# Altium integrated library BB Analog Multiplier Divider.IntLib: 43 symbols
Pins are listed as number, name and electrical type; pins without a type are passive.

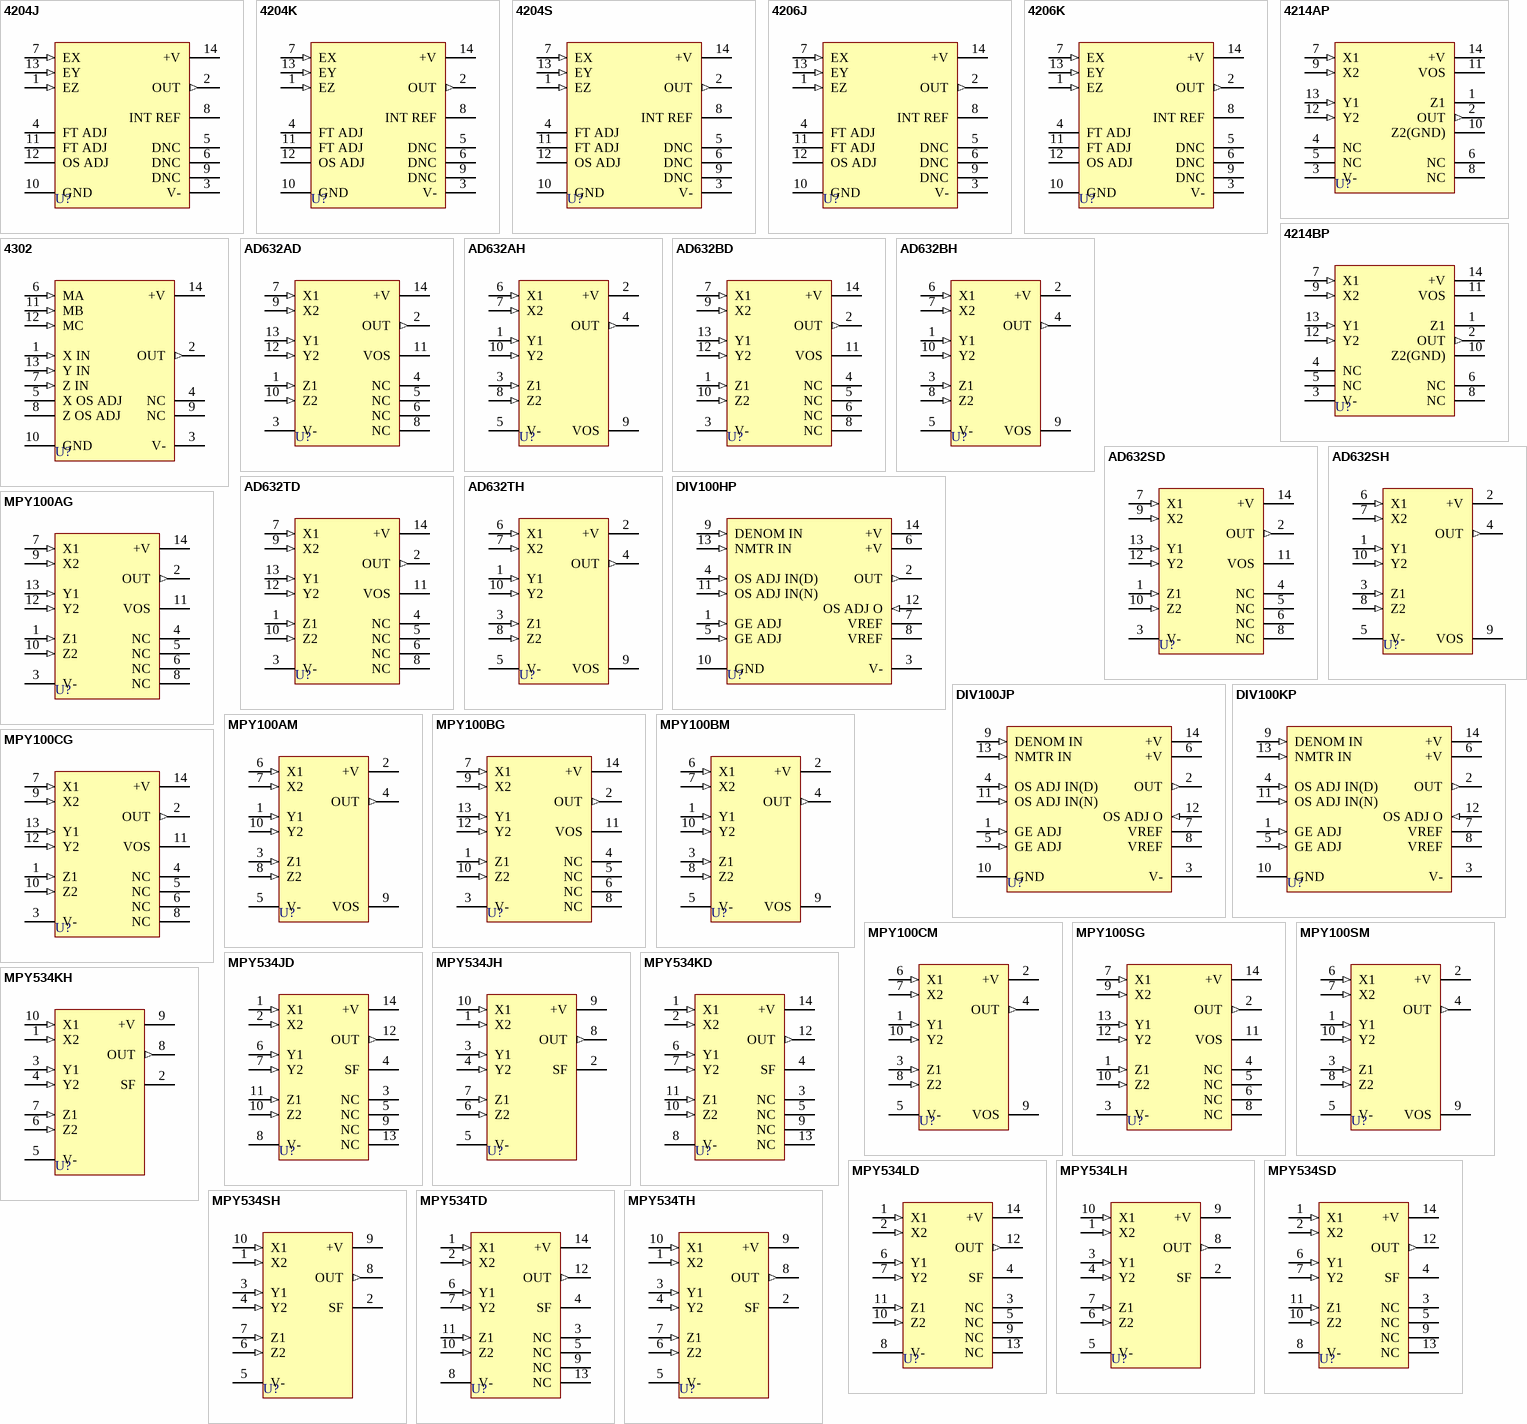
[diagram p0: symbols 4204J to MPY534TH]

## 4204J
designator U?
Analog Multiplier-Divider; Note: Make no connection to pins 5, 6 and 9; Published: 8-Jun-2000; LatestRevisionDate: 17-Jul-2002; LatestRevisionNote: Re-released for DXP Platform.; DatasheetVersion: 1991; PackageVersion: 1994; PackageReference: ZZ107; Publisher: Altium Limited; PackageDescription: DIP; 14 Round Pins; Row Space 7.62 mm; Pitch 2.54 mm; ComponentLink1Description: Manufacturer Link; ComponentLink1URL: http://www.ti.com/
footprint ZZ107 (DIP; 14 Round Pins; Row Space 7.62 mm; Pitch 2.54 mm)
pins: 1 EZ (in), 2 OUT (out), 3 V- (power), 4 FT ADJ, 5 DNC, 6 DNC, 7 EX (in), 8 INT REF, 9 DNC, 10 GND (power), 11 FT ADJ, 12 OS ADJ, 13 EY (in), 14 +V (power)

## 4204K
designator U?
Analog Multiplier-Divider; Note: Make no connection to pins 5, 6 and 9; Published: 8-Jun-2000; LatestRevisionDate: 17-Jul-2002; LatestRevisionNote: Re-released for DXP Platform.; DatasheetVersion: 1991; PackageVersion: 1994; PackageReference: ZZ107; Publisher: Altium Limited; PackageDescription: DIP; 14 Round Pins; Row Space 7.62 mm; Pitch 2.54 mm; ComponentLink1Description: Manufacturer Link; ComponentLink1URL: http://www.ti.com/
footprint ZZ107 (DIP; 14 Round Pins; Row Space 7.62 mm; Pitch 2.54 mm)
pins: 1 EZ (in), 2 OUT (out), 3 V- (power), 4 FT ADJ, 5 DNC, 6 DNC, 7 EX (in), 8 INT REF, 9 DNC, 10 GND (power), 11 FT ADJ, 12 OS ADJ, 13 EY (in), 14 +V (power)

## 4204S
designator U?
Analog Multiplier-Divider; Note: Make no connection to pins 5, 6 and 9; Published: 8-Jun-2000; LatestRevisionDate: 17-Jul-2002; LatestRevisionNote: Re-released for DXP Platform.; DatasheetVersion: 1991; PackageVersion: 1994; PackageReference: ZZ107; Publisher: Altium Limited; PackageDescription: DIP; 14 Round Pins; Row Space 7.62 mm; Pitch 2.54 mm; ComponentLink1Description: Manufacturer Link; ComponentLink1URL: http://www.ti.com/
footprint ZZ107 (DIP; 14 Round Pins; Row Space 7.62 mm; Pitch 2.54 mm)
pins: 1 EZ (in), 2 OUT (out), 3 V- (power), 4 FT ADJ, 5 DNC, 6 DNC, 7 EX (in), 8 INT REF, 9 DNC, 10 GND (power), 11 FT ADJ, 12 OS ADJ, 13 EY (in), 14 +V (power)

## 4206J
designator U?
Analog Multiplier-Divider; Note: Make no connection to pins 5, 6 and 9; Published: 8-Jun-2000; LatestRevisionDate: 17-Jul-2002; LatestRevisionNote: Re-released for DXP Platform.; DatasheetVersion: 1991; PackageVersion: 1995; PackageReference: ZZ003; Publisher: Altium Limited; PackageDescription: DIP; 14 Round Pins; Row Space 7.62 mm; Pitch 2.54 mm; ComponentLink1Description: Manufacturer Link; ComponentLink1URL: http://www.ti.com/
footprint ZZ003 (DIP; 14 Round Pins; Row Space 7.62 mm; Pitch 2.54 mm)
pins: 1 EZ (in), 2 OUT (out), 3 V- (power), 4 FT ADJ, 5 DNC, 6 DNC, 7 EX (in), 8 INT REF, 9 DNC, 10 GND (power), 11 FT ADJ, 12 OS ADJ, 13 EY (in), 14 +V (power)

## 4206K
designator U?
Analog Multiplier-Divider; Note: Make no connection to pins 5, 6 and 9; Published: 8-Jun-2000; LatestRevisionDate: 17-Jul-2002; LatestRevisionNote: Re-released for DXP Platform.; DatasheetVersion: 1991; PackageVersion: 1995; PackageReference: ZZ003; Publisher: Altium Limited; PackageDescription: DIP; 14 Round Pins; Row Space 7.62 mm; Pitch 2.54 mm; ComponentLink1Description: Manufacturer Link; ComponentLink1URL: http://www.ti.com/
footprint ZZ003 (DIP; 14 Round Pins; Row Space 7.62 mm; Pitch 2.54 mm)
pins: 1 EZ (in), 2 OUT (out), 3 V- (power), 4 FT ADJ, 5 DNC, 6 DNC, 7 EX (in), 8 INT REF, 9 DNC, 10 GND (power), 11 FT ADJ, 12 OS ADJ, 13 EY (in), 14 +V (power)

## 4214AP
designator U?
Multiplier-Divider; Note: Pins 4, 5, 6 and 8 are No internal Connection (NC) pins.; Published: 8-Jun-2000; LatestRevisionDate: 17-Jul-2002; LatestRevisionNote: Re-released for DXP Platform.; DatasheetVersion: 1986; PackageVersion: 1995; PackageReference: ZZ003; Publisher: Altium Limited; PackageDescription: DIP; 14 Round Pins; Row Space 7.62 mm; Pitch 2.54 mm; ComponentLink1Description: Manufacturer Link; ComponentLink1URL: http://www.ti.com/
footprint ZZ003 (DIP; 14 Round Pins; Row Space 7.62 mm; Pitch 2.54 mm)
pins: 1 Z1, 2 OUT (out), 3 V- (power), 4 NC, 5 NC, 6 NC, 7 X1 (in), 8 NC, 9 X2 (in), 10 Z2(GND), 11 VOS, 12 Y2 (in), 13 Y1 (in), 14 +V (power)

## 4214BP
designator U?
Multiplier-Divider; Note: Pins 4, 5, 6 and 8 are No internal Connection (NC) pins.; Published: 8-Jun-2000; LatestRevisionDate: 17-Jul-2002; LatestRevisionNote: Re-released for DXP Platform.; DatasheetVersion: 1986; PackageVersion: 1995; PackageReference: ZZ003; Publisher: Altium Limited; PackageDescription: DIP; 14 Round Pins; Row Space 7.62 mm; Pitch 2.54 mm; ComponentLink1Description: Manufacturer Link; ComponentLink1URL: http://www.ti.com/
footprint ZZ003 (DIP; 14 Round Pins; Row Space 7.62 mm; Pitch 2.54 mm)
pins: 1 Z1, 2 OUT (out), 3 V- (power), 4 NC, 5 NC, 6 NC, 7 X1 (in), 8 NC, 9 X2 (in), 10 Z2(GND), 11 VOS, 12 Y2 (in), 13 Y1 (in), 14 +V (power)

## 4302
designator U?
Low-Cost Multifunction Converter; Note: Pins 4 and 9 are No internal Connection (NC) pins.; Published: 8-Jun-2000; LatestRevisionDate: 17-Jul-2002; LatestRevisionNote: Re-released for DXP Platform.; DatasheetVersion: 1995; PackageVersion: 1995; PackageReference: ZZ003; Publisher: Altium Limited; PackageDescription: DIP; 14 Round Pins; Row Space 7.62 mm; Pitch 2.54 mm; ComponentLink1Description: Manufacturer Link; ComponentLink1URL: http://www.ti.com/
footprint ZZ003 (DIP; 14 Round Pins; Row Space 7.62 mm; Pitch 2.54 mm)
pins: 1 X IN (in), 2 OUT (out), 3 V- (power), 4 NC, 5 X OS ADJ, 6 MA (in), 7 Z IN (in), 8 Z OS ADJ, 9 NC, 10 GND (power), 11 MB (in), 12 MC (in), 13 Y IN (in), 14 +V (power)

## AD632AD
designator U?
Precision Analog Multiplier; Note: Pins 4,5,6 and 8 are No internal Connection (NC) pins.; Published: 8-Jun-2000; LatestRevisionDate: 06-Jun-2005; LatestRevisionNote: Stylized 3D Model Added.; DatasheetVersion: 1989; PackageVersion: 1994; PackageReference: 137; Publisher: Altium Limited; PackageDescription: DIP; 14 Leads; Row Spacing 7.62 mm; Pitch 2.54 mm; ComponentLink1Description: Manufacturer Link; ComponentLink1URL: http://www.ti.com/
footprint 137 (DIP; 14 Leads; Row Spacing 7.62 mm; Pitch 2.54 mm)
3D model 137 (DIP; 14 Leads; Row Spacing 7.62 mm; Pitch 2.54 mm)
pins: 1 Z1 (in), 2 OUT (out), 3 V- (power), 4 NC, 5 NC, 6 NC, 7 X1 (in), 8 NC, 9 X2 (in), 10 Z2 (in), 11 VOS, 12 Y2 (in), 13 Y1 (in), 14 +V (power)

## AD632AH
designator U?
Precision Analog Multiplier; Published: 8-Jun-2000; LatestRevisionDate: 17-Jul-2002; LatestRevisionNote: Re-released for DXP Platform.; DatasheetVersion: 1989; PackageVersion: revA; PackageReference: ZZ007; Publisher: Altium Limited; PackageDescription: Can; 10 Leads; Pin Circle Dia. 5.84 mm (TO-100); Lead Dia. 0.53 mm (max); ComponentLink1Description: Manufacturer Link; ComponentLink1URL: http://www.ti.com/
footprint ZZ007 (Can; 10 Leads; Pin Circle Dia. 5.84 mm (TO-100); Lead Dia. 0.53 mm (max))
pins: 1 Y1 (in), 2 +V (power), 3 Z1 (in), 4 OUT (out), 5 V- (power), 6 X1 (in), 7 X2 (in), 8 Z2 (in), 9 VOS, 10 Y2 (in)

## AD632BD
designator U?
Precision Analog Multiplier; Note: Pins 4,5,6 and 8 are No internal Connection (NC) pins.; Published: 8-Jun-2000; LatestRevisionDate: 06-Jun-2005; LatestRevisionNote: Stylized 3D Model Added.; DatasheetVersion: 1989; PackageVersion: 1994; PackageReference: 137; Publisher: Altium Limited; PackageDescription: DIP; 14 Leads; Row Spacing 7.62 mm; Pitch 2.54 mm; ComponentLink1Description: Manufacturer Link; ComponentLink1URL: http://www.ti.com/
footprint 137 (DIP; 14 Leads; Row Spacing 7.62 mm; Pitch 2.54 mm)
3D model 137 (DIP; 14 Leads; Row Spacing 7.62 mm; Pitch 2.54 mm)
pins: 1 Z1 (in), 2 OUT (out), 3 V- (power), 4 NC, 5 NC, 6 NC, 7 X1 (in), 8 NC, 9 X2 (in), 10 Z2 (in), 11 VOS, 12 Y2 (in), 13 Y1 (in), 14 +V (power)

## AD632BH
designator U?
Precision Analog Multiplier; Published: 8-Jun-2000; LatestRevisionDate: 17-Jul-2002; LatestRevisionNote: Re-released for DXP Platform.; DatasheetVersion: 1989; PackageVersion: revA; PackageReference: ZZ007; Publisher: Altium Limited; PackageDescription: Can; 10 Leads; Pin Circle Dia. 5.84 mm (TO-100); Lead Dia. 0.53 mm (max); ComponentLink1Description: Manufacturer Link; ComponentLink1URL: http://www.ti.com/
footprint ZZ007 (Can; 10 Leads; Pin Circle Dia. 5.84 mm (TO-100); Lead Dia. 0.53 mm (max))
pins: 1 Y1 (in), 2 +V (power), 3 Z1 (in), 4 OUT (out), 5 V- (power), 6 X1 (in), 7 X2 (in), 8 Z2 (in), 9 VOS, 10 Y2 (in)

## AD632SD
designator U?
Precision Analog Multiplier; Note: Pins 4,5,6 and 8 are No internal Connection (NC) pins.; Published: 8-Jun-2000; LatestRevisionDate: 06-Jun-2005; LatestRevisionNote: Stylized 3D Model Added.; DatasheetVersion: 1989; PackageVersion: 1994; PackageReference: 137; Publisher: Altium Limited; PackageDescription: DIP; 14 Leads; Row Spacing 7.62 mm; Pitch 2.54 mm; ComponentLink1Description: Manufacturer Link; ComponentLink1URL: http://www.ti.com/
footprint 137 (DIP; 14 Leads; Row Spacing 7.62 mm; Pitch 2.54 mm)
3D model 137 (DIP; 14 Leads; Row Spacing 7.62 mm; Pitch 2.54 mm)
pins: 1 Z1 (in), 2 OUT (out), 3 V- (power), 4 NC, 5 NC, 6 NC, 7 X1 (in), 8 NC, 9 X2 (in), 10 Z2 (in), 11 VOS, 12 Y2 (in), 13 Y1 (in), 14 +V (power)

## AD632SH
designator U?
Precision Analog Multiplier; Published: 8-Jun-2000; LatestRevisionDate: 17-Jul-2002; LatestRevisionNote: Re-released for DXP Platform.; DatasheetVersion: 1989; PackageVersion: revA; PackageReference: ZZ007; Publisher: Altium Limited; PackageDescription: Can; 10 Leads; Pin Circle Dia. 5.84 mm (TO-100); Lead Dia. 0.53 mm (max); ComponentLink1Description: Manufacturer Link; ComponentLink1URL: http://www.ti.com/
footprint ZZ007 (Can; 10 Leads; Pin Circle Dia. 5.84 mm (TO-100); Lead Dia. 0.53 mm (max))
pins: 1 Y1 (in), 2 +V (power), 3 Z1 (in), 4 OUT (out), 5 V- (power), 6 X1 (in), 7 X2 (in), 8 Z2 (in), 9 VOS, 10 Y2 (in)

## AD632TD
designator U?
Precision Analog Multiplier; Note: Pins 4,5,6 and 8 are No internal Connection (NC) pins.; Published: 8-Jun-2000; LatestRevisionDate: 06-Jun-2005; LatestRevisionNote: Stylized 3D Model Added.; DatasheetVersion: 1989; PackageVersion: 1994; PackageReference: 137; Publisher: Altium Limited; PackageDescription: DIP; 14 Leads; Row Spacing 7.62 mm; Pitch 2.54 mm; ComponentLink1Description: Manufacturer Link; ComponentLink1URL: http://www.ti.com/
footprint 137 (DIP; 14 Leads; Row Spacing 7.62 mm; Pitch 2.54 mm)
3D model 137 (DIP; 14 Leads; Row Spacing 7.62 mm; Pitch 2.54 mm)
pins: 1 Z1 (in), 2 OUT (out), 3 V- (power), 4 NC, 5 NC, 6 NC, 7 X1 (in), 8 NC, 9 X2 (in), 10 Z2 (in), 11 VOS, 12 Y2 (in), 13 Y1 (in), 14 +V (power)

## AD632TH
designator U?
Precision Analog Multiplier; Published: 8-Jun-2000; LatestRevisionDate: 17-Jul-2002; LatestRevisionNote: Re-released for DXP Platform.; DatasheetVersion: 1989; PackageVersion: revA; PackageReference: ZZ007; Publisher: Altium Limited; PackageDescription: Can; 10 Leads; Pin Circle Dia. 5.84 mm (TO-100); Lead Dia. 0.53 mm (max); ComponentLink1Description: Manufacturer Link; ComponentLink1URL: http://www.ti.com/
footprint ZZ007 (Can; 10 Leads; Pin Circle Dia. 5.84 mm (TO-100); Lead Dia. 0.53 mm (max))
pins: 1 Y1 (in), 2 +V (power), 3 Z1 (in), 4 OUT (out), 5 V- (power), 6 X1 (in), 7 X2 (in), 8 Z2 (in), 9 VOS, 10 Y2 (in)

## DIV100HP
designator U?
Analog Divider; Published: 8-Jun-2000; LatestRevisionDate: 17-Jul-2002; LatestRevisionNote: Re-released for DXP Platform.; DatasheetVersion: 1996~1997; PackageVersion: 1995; PackageReference: ZZ105; Publisher: Altium Limited; PackageDescription: DIP; 14 Round Pins; Row Space 7.62 mm; Pitch 2.54 mm; ComponentLink1Description: Manufacturer Link; ComponentLink1URL: http://www.ti.com/
footprint ZZ105 (DIP; 14 Round Pins; Row Space 7.62 mm; Pitch 2.54 mm)
pins: 1 GE ADJ (in), 2 OUT (out), 3 V- (power), 4 OS ADJ IN(D) (in), 5 GE ADJ (in), 6 +V (power), 7 VREF, 8 VREF, 9 DENOM IN (in), 10 GND (power), 11 OS ADJ IN(N) (in), 12 OS ADJ O (in), 13 NMTR IN (in), 14 +V (power)

## DIV100JP
designator U?
Analog Divider; Published: 8-Jun-2000; LatestRevisionDate: 17-Jul-2002; LatestRevisionNote: Re-released for DXP Platform.; DatasheetVersion: 1996~1997; PackageVersion: 1995; PackageReference: ZZ105; Publisher: Altium Limited; PackageDescription: DIP; 14 Round Pins; Row Space 7.62 mm; Pitch 2.54 mm; ComponentLink1Description: Manufacturer Link; ComponentLink1URL: http://www.ti.com/
footprint ZZ105 (DIP; 14 Round Pins; Row Space 7.62 mm; Pitch 2.54 mm)
pins: 1 GE ADJ (in), 2 OUT (out), 3 V- (power), 4 OS ADJ IN(D) (in), 5 GE ADJ (in), 6 +V (power), 7 VREF, 8 VREF, 9 DENOM IN (in), 10 GND (power), 11 OS ADJ IN(N) (in), 12 OS ADJ O (in), 13 NMTR IN (in), 14 +V (power)

## DIV100KP
designator U?
Analog Divider; Published: 8-Jun-2000; LatestRevisionDate: 17-Jul-2002; LatestRevisionNote: Re-released for DXP Platform.; DatasheetVersion: 1996~1997; PackageVersion: 1995; PackageReference: ZZ105; Publisher: Altium Limited; PackageDescription: DIP; 14 Round Pins; Row Space 7.62 mm; Pitch 2.54 mm; ComponentLink1Description: Manufacturer Link; ComponentLink1URL: http://www.ti.com/
footprint ZZ105 (DIP; 14 Round Pins; Row Space 7.62 mm; Pitch 2.54 mm)
pins: 1 GE ADJ (in), 2 OUT (out), 3 V- (power), 4 OS ADJ IN(D) (in), 5 GE ADJ (in), 6 +V (power), 7 VREF, 8 VREF, 9 DENOM IN (in), 10 GND (power), 11 OS ADJ IN(N) (in), 12 OS ADJ O (in), 13 NMTR IN (in), 14 +V (power)

## MPY100AG
designator U?
Multiplier-Divider; Note: Pins 4,5,6 and 8 are No internal Connection (NC) pins.; Published: 8-Jun-2000; LatestRevisionDate: 06-Jun-2005; LatestRevisionNote: Stylized 3D Model Added.; DatasheetVersion: Mar-1995; PackageVersion: 1996/1997; PackageReference: 169F; Publisher: Altium Limited; PackageDescription: DIP; 14 Leads; Row Spacing 7.62 mm; Pitch 2.54 mm; ComponentLink1Description: Manufacturer Link; ComponentLink1URL: http://www.ti.com/; ComponentLink2Description: Datasheet; ComponentLink2URL: http://www-s.ti.com/sc/ds/MPY100.pdf
footprint 169F (DIP; 14 Leads; Row Spacing 7.62 mm; Pitch 2.54 mm)
3D model 010G (DIP; 14 Leads; Row Spacing 7.62 mm; Pitch 2.54 mm)
pins: 1 Z1 (in), 2 OUT (out), 3 V- (power), 4 NC, 5 NC, 6 NC, 7 X1 (in), 8 NC, 9 X2 (in), 10 Z2 (in), 11 VOS, 12 Y2 (in), 13 Y1 (in), 14 +V (power)

## MPY100AM
designator U?
Multiplier-Divider; Published: 8-Jun-2000; LatestRevisionDate: 17-Jul-2002; LatestRevisionNote: Re-released for DXP Platform.; DatasheetVersion: Mar-1995; PackageVersion: revA; PackageReference: ZZ007; Publisher: Altium Limited; PackageDescription: Can; 10 Leads; Pin Circle Dia. 5.84 mm (TO-100); Lead Dia. 0.53 mm (max); ComponentLink1Description: Manufacturer Link; ComponentLink1URL: http://www.ti.com/; ComponentLink2Description: Datasheet; ComponentLink2URL: http://www-s.ti.com/sc/ds/MPY100.pdf
footprint ZZ007 (Can; 10 Leads; Pin Circle Dia. 5.84 mm (TO-100); Lead Dia. 0.53 mm (max))
pins: 1 Y1 (in), 2 +V (power), 3 Z1 (in), 4 OUT (out), 5 V- (power), 6 X1 (in), 7 X2 (in), 8 Z2 (in), 9 VOS, 10 Y2 (in)

## MPY100BG
designator U?
Multiplier-Divider; Note: Pins 4,5,6 and 8 are No internal Connection (NC) pins.; Published: 8-Jun-2000; LatestRevisionDate: 06-Jun-2005; LatestRevisionNote: Stylized 3D Model Added.; DatasheetVersion: Mar-1995; PackageVersion: 1996/1997; PackageReference: 169F; Publisher: Altium Limited; PackageDescription: DIP; 14 Leads; Row Spacing 7.62 mm; Pitch 2.54 mm; ComponentLink1Description: Manufacturer Link; ComponentLink1URL: http://www.ti.com/; ComponentLink2Description: Datasheet; ComponentLink2URL: http://www-s.ti.com/sc/ds/MPY100.pdf
footprint 169F (DIP; 14 Leads; Row Spacing 7.62 mm; Pitch 2.54 mm)
3D model 010G (DIP; 14 Leads; Row Spacing 7.62 mm; Pitch 2.54 mm)
pins: 1 Z1 (in), 2 OUT (out), 3 V- (power), 4 NC, 5 NC, 6 NC, 7 X1 (in), 8 NC, 9 X2 (in), 10 Z2 (in), 11 VOS, 12 Y2 (in), 13 Y1 (in), 14 +V (power)

## MPY100BM
designator U?
Multiplier-Divider; Published: 8-Jun-2000; LatestRevisionDate: 17-Jul-2002; LatestRevisionNote: Re-released for DXP Platform.; DatasheetVersion: Mar-1995; PackageVersion: revA; PackageReference: ZZ007; Publisher: Altium Limited; PackageDescription: Can; 10 Leads; Pin Circle Dia. 5.84 mm (TO-100); Lead Dia. 0.53 mm (max); ComponentLink1Description: Manufacturer Link; ComponentLink1URL: http://www.ti.com/; ComponentLink2Description: Datasheet; ComponentLink2URL: http://www-s.ti.com/sc/ds/MPY100.pdf
footprint ZZ007 (Can; 10 Leads; Pin Circle Dia. 5.84 mm (TO-100); Lead Dia. 0.53 mm (max))
pins: 1 Y1 (in), 2 +V (power), 3 Z1 (in), 4 OUT (out), 5 V- (power), 6 X1 (in), 7 X2 (in), 8 Z2 (in), 9 VOS, 10 Y2 (in)

## MPY100CG
designator U?
Multiplier-Divider; Note: Pins 4,5,6 and 8 are No internal Connection (NC) pins.; Published: 8-Jun-2000; LatestRevisionDate: 06-Jun-2005; LatestRevisionNote: Stylized 3D Model Added.; DatasheetVersion: Mar-1995; PackageVersion: 1996/1997; PackageReference: 169F; Publisher: Altium Limited; PackageDescription: DIP; 14 Leads; Row Spacing 7.62 mm; Pitch 2.54 mm; ComponentLink1Description: Manufacturer Link; ComponentLink1URL: http://www.ti.com/; ComponentLink2Description: Datasheet; ComponentLink2URL: http://www-s.ti.com/sc/ds/MPY100.pdf
footprint 169F (DIP; 14 Leads; Row Spacing 7.62 mm; Pitch 2.54 mm)
3D model 010G (DIP; 14 Leads; Row Spacing 7.62 mm; Pitch 2.54 mm)
pins: 1 Z1 (in), 2 OUT (out), 3 V- (power), 4 NC, 5 NC, 6 NC, 7 X1 (in), 8 NC, 9 X2 (in), 10 Z2 (in), 11 VOS, 12 Y2 (in), 13 Y1 (in), 14 +V (power)

## MPY100CM
designator U?
Multiplier-Divider; Published: 8-Jun-2000; LatestRevisionDate: 17-Jul-2002; LatestRevisionNote: Re-released for DXP Platform.; DatasheetVersion: Mar-1995; PackageVersion: revA; PackageReference: ZZ007; Publisher: Altium Limited; PackageDescription: Can; 10 Leads; Pin Circle Dia. 5.84 mm (TO-100); Lead Dia. 0.53 mm (max); ComponentLink1Description: Manufacturer Link; ComponentLink1URL: http://www.ti.com/; ComponentLink2Description: Datasheet; ComponentLink2URL: http://www-s.ti.com/sc/ds/MPY100.pdf
footprint ZZ007 (Can; 10 Leads; Pin Circle Dia. 5.84 mm (TO-100); Lead Dia. 0.53 mm (max))
pins: 1 Y1 (in), 2 +V (power), 3 Z1 (in), 4 OUT (out), 5 V- (power), 6 X1 (in), 7 X2 (in), 8 Z2 (in), 9 VOS, 10 Y2 (in)

## MPY100SG
designator U?
Multiplier-Divider; Note: Pins 4,5,6 and 8 are No internal Connection (NC) pins.; Published: 8-Jun-2000; LatestRevisionDate: 06-Jun-2005; LatestRevisionNote: Stylized 3D Model Added.; DatasheetVersion: Mar-1995; PackageVersion: 1996/1997; PackageReference: 169F; Publisher: Altium Limited; PackageDescription: DIP; 14 Leads; Row Spacing 7.62 mm; Pitch 2.54 mm; ComponentLink1Description: Manufacturer Link; ComponentLink1URL: http://www.ti.com/; ComponentLink2Description: Datasheet; ComponentLink2URL: http://www-s.ti.com/sc/ds/MPY100.pdf
footprint 169F (DIP; 14 Leads; Row Spacing 7.62 mm; Pitch 2.54 mm)
3D model 010G (DIP; 14 Leads; Row Spacing 7.62 mm; Pitch 2.54 mm)
pins: 1 Z1 (in), 2 OUT (out), 3 V- (power), 4 NC, 5 NC, 6 NC, 7 X1 (in), 8 NC, 9 X2 (in), 10 Z2 (in), 11 VOS, 12 Y2 (in), 13 Y1 (in), 14 +V (power)

## MPY100SM
designator U?
Multiplier-Divider; Published: 8-Jun-2000; LatestRevisionDate: 17-Jul-2002; LatestRevisionNote: Re-released for DXP Platform.; DatasheetVersion: Mar-1995; PackageVersion: revA; PackageReference: ZZ007; Publisher: Altium Limited; PackageDescription: Can; 10 Leads; Pin Circle Dia. 5.84 mm (TO-100); Lead Dia. 0.53 mm (max); ComponentLink1Description: Manufacturer Link; ComponentLink1URL: http://www.ti.com/; ComponentLink2Description: Datasheet; ComponentLink2URL: http://www-s.ti.com/sc/ds/MPY100.pdf
footprint ZZ007 (Can; 10 Leads; Pin Circle Dia. 5.84 mm (TO-100); Lead Dia. 0.53 mm (max))
pins: 1 Y1 (in), 2 +V (power), 3 Z1 (in), 4 OUT (out), 5 V- (power), 6 X1 (in), 7 X2 (in), 8 Z2 (in), 9 VOS, 10 Y2 (in)

## MPY534JD
designator U?
Precision Analog Multiplier; Note: Pins 3,5,9 and 13 are No internal Connection (NC) pins.; Published: 8-Jun-2000; LatestRevisionDate: 06-Jun-2005; LatestRevisionNote: Stylized 3D Model Added.; DatasheetVersion: Oct-1993; PackageVersion: 1996/1997; PackageReference: 169F; Publisher: Altium Limited; PackageDescription: DIP; 14 Leads; Row Spacing 7.62 mm; Pitch 2.54 mm; ComponentLink1Description: Manufacturer Link; ComponentLink1URL: http://www.ti.com/; ComponentLink2Description: Datasheet; ComponentLink2URL: http://www-s.ti.com/sc/ds/MPY534.pdf
footprint 169F (DIP; 14 Leads; Row Spacing 7.62 mm; Pitch 2.54 mm)
3D model 010G (DIP; 14 Leads; Row Spacing 7.62 mm; Pitch 2.54 mm)
pins: 1 X1 (in), 2 X2 (in), 3 NC, 4 SF, 5 NC, 6 Y1 (in), 7 Y2 (in), 8 V- (power), 9 NC, 10 Z2 (in), 11 Z1 (in), 12 OUT (out), 13 NC, 14 +V (power)

## MPY534JH
designator U?
Precision Analog Multiplier; Published: 8-Jun-2000; LatestRevisionDate: 17-Jul-2002; LatestRevisionNote: Re-released for DXP Platform.; DatasheetVersion: Oct-1993; PackageVersion: revA; PackageReference: ZZ007; Publisher: Altium Limited; PackageDescription: Can; 10 Leads; Pin Circle Dia. 5.84 mm (TO-100); Lead Dia. 0.53 mm (max); ComponentLink1Description: Manufacturer Link; ComponentLink1URL: http://www.ti.com/; ComponentLink2Description: Datasheet; ComponentLink2URL: http://www-s.ti.com/sc/ds/MPY534.pdf
footprint ZZ007 (Can; 10 Leads; Pin Circle Dia. 5.84 mm (TO-100); Lead Dia. 0.53 mm (max))
pins: 1 X2 (in), 2 SF, 3 Y1 (in), 4 Y2 (in), 5 V- (power), 6 Z2 (in), 7 Z1 (in), 8 OUT (out), 9 +V (power), 10 X1 (in)

## MPY534KD
designator U?
Precision Analog Multiplier; Note: Pins 3,5,9 and 13 are No internal Connection (NC) pins.; Published: 8-Jun-2000; LatestRevisionDate: 06-Jun-2005; LatestRevisionNote: Stylized 3D Model Added.; DatasheetVersion: Oct-1993; PackageVersion: 1996/1997; PackageReference: 169F; Publisher: Altium Limited; PackageDescription: DIP; 14 Leads; Row Spacing 7.62 mm; Pitch 2.54 mm; ComponentLink1Description: Manufacturer Link; ComponentLink1URL: http://www.ti.com/; ComponentLink2Description: Datasheet; ComponentLink2URL: http://www-s.ti.com/sc/ds/MPY534.pdf
footprint 169F (DIP; 14 Leads; Row Spacing 7.62 mm; Pitch 2.54 mm)
3D model 010G (DIP; 14 Leads; Row Spacing 7.62 mm; Pitch 2.54 mm)
pins: 1 X1 (in), 2 X2 (in), 3 NC, 4 SF, 5 NC, 6 Y1 (in), 7 Y2 (in), 8 V- (power), 9 NC, 10 Z2 (in), 11 Z1 (in), 12 OUT (out), 13 NC, 14 +V (power)

## MPY534KH
designator U?
Precision Analog Multiplier; Published: 8-Jun-2000; LatestRevisionDate: 17-Jul-2002; LatestRevisionNote: Re-released for DXP Platform.; DatasheetVersion: Oct-1993; PackageVersion: revA; PackageReference: ZZ007; Publisher: Altium Limited; PackageDescription: Can; 10 Leads; Pin Circle Dia. 5.84 mm (TO-100); Lead Dia. 0.53 mm (max); ComponentLink1Description: Manufacturer Link; ComponentLink1URL: http://www.ti.com/; ComponentLink2Description: Datasheet; ComponentLink2URL: http://www-s.ti.com/sc/ds/MPY534.pdf
footprint ZZ007 (Can; 10 Leads; Pin Circle Dia. 5.84 mm (TO-100); Lead Dia. 0.53 mm (max))
pins: 1 X2 (in), 2 SF, 3 Y1 (in), 4 Y2 (in), 5 V- (power), 6 Z2 (in), 7 Z1 (in), 8 OUT (out), 9 +V (power), 10 X1 (in)

## MPY534LD
designator U?
Precision Analog Multiplier; Note: Pins 3,5,9 and 13 are No internal Connection (NC) pins.; Published: 8-Jun-2000; LatestRevisionDate: 06-Jun-2005; LatestRevisionNote: Stylized 3D Model Added.; DatasheetVersion: Oct-1993; PackageVersion: 1996/1997; PackageReference: 169F; Publisher: Altium Limited; PackageDescription: DIP; 14 Leads; Row Spacing 7.62 mm; Pitch 2.54 mm; ComponentLink1Description: Manufacturer Link; ComponentLink1URL: http://www.ti.com/; ComponentLink2Description: Datasheet; ComponentLink2URL: http://www-s.ti.com/sc/ds/MPY534.pdf
footprint 169F (DIP; 14 Leads; Row Spacing 7.62 mm; Pitch 2.54 mm)
3D model 010G (DIP; 14 Leads; Row Spacing 7.62 mm; Pitch 2.54 mm)
pins: 1 X1 (in), 2 X2 (in), 3 NC, 4 SF, 5 NC, 6 Y1 (in), 7 Y2 (in), 8 V- (power), 9 NC, 10 Z2 (in), 11 Z1 (in), 12 OUT (out), 13 NC, 14 +V (power)

## MPY534LH
designator U?
Precision Analog Multiplier; Published: 8-Jun-2000; LatestRevisionDate: 17-Jul-2002; LatestRevisionNote: Re-released for DXP Platform.; DatasheetVersion: Oct-1993; PackageVersion: revA; PackageReference: ZZ007; Publisher: Altium Limited; PackageDescription: Can; 10 Leads; Pin Circle Dia. 5.84 mm (TO-100); Lead Dia. 0.53 mm (max); ComponentLink1Description: Manufacturer Link; ComponentLink1URL: http://www.ti.com/; ComponentLink2Description: Datasheet; ComponentLink2URL: http://www-s.ti.com/sc/ds/MPY534.pdf
footprint ZZ007 (Can; 10 Leads; Pin Circle Dia. 5.84 mm (TO-100); Lead Dia. 0.53 mm (max))
pins: 1 X2 (in), 2 SF, 3 Y1 (in), 4 Y2 (in), 5 V- (power), 6 Z2 (in), 7 Z1 (in), 8 OUT (out), 9 +V (power), 10 X1 (in)

## MPY534SD
designator U?
Precision Analog Multiplier; Note: Pins 3,5,9 and 13 are No internal Connection (NC) pins.; Published: 8-Jun-2000; LatestRevisionDate: 06-Jun-2005; LatestRevisionNote: Stylized 3D Model Added.; DatasheetVersion: Oct-1993; PackageVersion: 1996/1997; PackageReference: 169F; Publisher: Altium Limited; PackageDescription: DIP; 14 Leads; Row Spacing 7.62 mm; Pitch 2.54 mm; ComponentLink1Description: Manufacturer Link; ComponentLink1URL: http://www.ti.com/; ComponentLink2Description: Datasheet; ComponentLink2URL: http://www-s.ti.com/sc/ds/MPY534.pdf
footprint 169F (DIP; 14 Leads; Row Spacing 7.62 mm; Pitch 2.54 mm)
3D model 010G (DIP; 14 Leads; Row Spacing 7.62 mm; Pitch 2.54 mm)
pins: 1 X1 (in), 2 X2 (in), 3 NC, 4 SF, 5 NC, 6 Y1 (in), 7 Y2 (in), 8 V- (power), 9 NC, 10 Z2 (in), 11 Z1 (in), 12 OUT (out), 13 NC, 14 +V (power)

## MPY534SH
designator U?
Precision Analog Multiplier; Published: 8-Jun-2000; LatestRevisionDate: 17-Jul-2002; LatestRevisionNote: Re-released for DXP Platform.; DatasheetVersion: Oct-1993; PackageVersion: revA; PackageReference: ZZ007; Publisher: Altium Limited; PackageDescription: Can; 10 Leads; Pin Circle Dia. 5.84 mm (TO-100); Lead Dia. 0.53 mm (max); ComponentLink1Description: Manufacturer Link; ComponentLink1URL: http://www.ti.com/; ComponentLink2Description: Datasheet; ComponentLink2URL: http://www-s.ti.com/sc/ds/MPY534.pdf
footprint ZZ007 (Can; 10 Leads; Pin Circle Dia. 5.84 mm (TO-100); Lead Dia. 0.53 mm (max))
pins: 1 X2 (in), 2 SF, 3 Y1 (in), 4 Y2 (in), 5 V- (power), 6 Z2 (in), 7 Z1 (in), 8 OUT (out), 9 +V (power), 10 X1 (in)

## MPY534TD
designator U?
Precision Analog Multiplier; Note: Pins 3,5,9 and 13 are No internal Connection (NC) pins.; Published: 8-Jun-2000; LatestRevisionDate: 06-Jun-2005; LatestRevisionNote: Stylized 3D Model Added.; DatasheetVersion: Oct-1993; PackageVersion: 1996/1997; PackageReference: 169F; Publisher: Altium Limited; PackageDescription: DIP; 14 Leads; Row Spacing 7.62 mm; Pitch 2.54 mm; ComponentLink1Description: Manufacturer Link; ComponentLink1URL: http://www.ti.com/; ComponentLink2Description: Datasheet; ComponentLink2URL: http://www-s.ti.com/sc/ds/MPY534.pdf
footprint 169F (DIP; 14 Leads; Row Spacing 7.62 mm; Pitch 2.54 mm)
3D model 010G (DIP; 14 Leads; Row Spacing 7.62 mm; Pitch 2.54 mm)
pins: 1 X1 (in), 2 X2 (in), 3 NC, 4 SF, 5 NC, 6 Y1 (in), 7 Y2 (in), 8 V- (power), 9 NC, 10 Z2 (in), 11 Z1 (in), 12 OUT (out), 13 NC, 14 +V (power)

## MPY534TH
designator U?
Precision Analog Multiplier; Published: 8-Jun-2000; LatestRevisionDate: 17-Jul-2002; LatestRevisionNote: Re-released for DXP Platform.; DatasheetVersion: Oct-1993; PackageVersion: revA; PackageReference: ZZ007; Publisher: Altium Limited; PackageDescription: Can; 10 Leads; Pin Circle Dia. 5.84 mm (TO-100); Lead Dia. 0.53 mm (max); ComponentLink1Description: Manufacturer Link; ComponentLink1URL: http://www.ti.com/; ComponentLink2Description: Datasheet; ComponentLink2URL: http://www-s.ti.com/sc/ds/MPY534.pdf
footprint ZZ007 (Can; 10 Leads; Pin Circle Dia. 5.84 mm (TO-100); Lead Dia. 0.53 mm (max))
pins: 1 X2 (in), 2 SF, 3 Y1 (in), 4 Y2 (in), 5 V- (power), 6 Z2 (in), 7 Z1 (in), 8 OUT (out), 9 +V (power), 10 X1 (in)

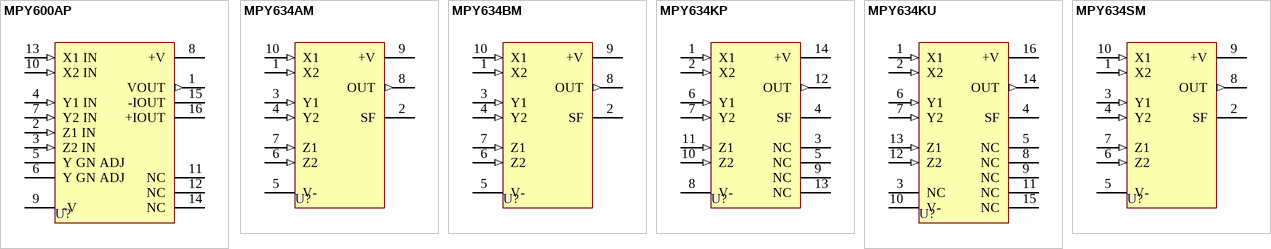
[diagram p1: symbols MPY600AP to MPY634SM]

## MPY600AP
designator U?
Wide-Bandwidth Signal Multiplier; Note: Pins 11, 12 and 14 are No internal Connection (NC) pins.; Published: 8-Jun-2000; LatestRevisionDate: 06-Jun-2005; LatestRevisionNote: Stylized 3D Model Added.; DatasheetVersion: 1994; PackageVersion: revF; PackageReference: ZZ180; Publisher: Altium Limited; PackageDescription: DIP, Plastic; 16 Leads; Row Spacing 7.62 mm; Pitch 2.54 mm; Code_JEDEC: MS-001-BB; ComponentLink1Description: Manufacturer Link; ComponentLink1URL: http://www.ti.com/
footprint ZZ180 (DIP, Plastic; 16 Leads; Row Spacing 7.62 mm; Pitch 2.54 mm)
3D model ZZ180 (DIP, Plastic; 16 Leads; Row Spacing 7.62 mm; Pitch 2.54 mm)
pins: 1 VOUT (out), 2 Z1 IN (in), 3 Z2 IN (in), 4 Y1 IN (in), 5 Y GN ADJ, 6 Y GN ADJ, 7 Y2 IN (in), 8 +V (power), 9 -V (power), 10 X2 IN (in), 11 NC, 12 NC, 13 X1 IN (in), 14 NC, 15 -IOUT, 16 +IOUT

## MPY634AM
designator U?
Wide-Bandwidth Precision Analog Multiplier; Published: 8-Jun-2000; LatestRevisionDate: 17-Jul-2002; LatestRevisionNote: Re-released for DXP Platform.; DatasheetVersion: Dec-1995; PackageVersion: revA; PackageReference: ZZ007; Publisher: Altium Limited; PackageDescription: Can; 10 Leads; Pin Circle Dia. 5.84 mm (TO-100); Lead Dia. 0.53 mm (max); ComponentLink1Description: Manufacturer Link; ComponentLink1URL: http://www.ti.com/; ComponentLink2Description: Datasheet; ComponentLink2URL: http://www-s.ti.com/sc/ds/MPY634.pdf
footprint ZZ007 (Can; 10 Leads; Pin Circle Dia. 5.84 mm (TO-100); Lead Dia. 0.53 mm (max))
pins: 1 X2 (in), 2 SF, 3 Y1 (in), 4 Y2 (in), 5 V- (power), 6 Z2 (in), 7 Z1 (in), 8 OUT (out), 9 +V (power), 10 X1 (in)

## MPY634BM
designator U?
Wide-Bandwidth Precision Analog Multiplier; Published: 8-Jun-2000; LatestRevisionDate: 17-Jul-2002; LatestRevisionNote: Re-released for DXP Platform.; DatasheetVersion: Dec-1995; PackageVersion: revA; PackageReference: ZZ007; Publisher: Altium Limited; PackageDescription: Can; 10 Leads; Pin Circle Dia. 5.84 mm (TO-100); Lead Dia. 0.53 mm (max); ComponentLink1Description: Manufacturer Link; ComponentLink1URL: http://www.ti.com/; ComponentLink2Description: Datasheet; ComponentLink2URL: http://www-s.ti.com/sc/ds/MPY634.pdf
footprint ZZ007 (Can; 10 Leads; Pin Circle Dia. 5.84 mm (TO-100); Lead Dia. 0.53 mm (max))
pins: 1 X2 (in), 2 SF, 3 Y1 (in), 4 Y2 (in), 5 V- (power), 6 Z2 (in), 7 Z1 (in), 8 OUT (out), 9 +V (power), 10 X1 (in)

## MPY634KP
designator U?
Wide-Bandwidth Precision Analog Multiplier; Note: Pins 3,5,9 and 13 are No internal Connection (NC) pins.; Published: 8-Jun-2000; LatestRevisionDate: 06-Jun-2005; LatestRevisionNote: Stylized 3D Model Added.; DatasheetVersion: Dec-1995; PackageVersion: 1996/1997; PackageReference: 010G; Publisher: Altium Limited; PackageDescription: DIP; 14 Leads; Row Spacing 7.62 mm; Pitch 2.54 mm; ComponentLink1Description: Manufacturer Link; ComponentLink1URL: http://www.ti.com/; ComponentLink2Description: Datasheet; ComponentLink2URL: http://www-s.ti.com/sc/ds/MPY634.pdf
footprint 010G (DIP; 14 Leads; Row Spacing 7.62 mm; Pitch 2.54 mm)
3D model 010G (DIP; 14 Leads; Row Spacing 7.62 mm; Pitch 2.54 mm)
pins: 1 X1 (in), 2 X2 (in), 3 NC, 4 SF, 5 NC, 6 Y1 (in), 7 Y2 (in), 8 V- (power), 9 NC, 10 Z2 (in), 11 Z1 (in), 12 OUT (out), 13 NC, 14 +V (power)

## MPY634KU
designator U?
Wide-Bandwidth Precision Analog Multiplier; Note: Pins 3,5,8,9,11 and 15 are No internal Connection (NC) pins.; Published: 8-Jun-2000; LatestRevisionDate: 13-Apr-2006; LatestRevisionNote: IPC-7351 Footprint Added.; DatasheetVersion: Dec-1995; PackageReference: 211F; Publisher: Altium Limited; PackageDescription: 16-Pin Small Outline Integrated Circuit 1.27 mm Pitch; Code_JEDEC: MS-013-AA; Code_IPC: SOIC127P1030-16; ComponentLink1Description: Manufacturer Link; ComponentLink1URL: http://www.ti.com/; ComponentLink2Description: Datasheet; ComponentLink2URL: http://www-s.ti.com/sc/ds/MPY634.pdf
footprint 211F_N (SOIC, 16-Leads, Body 10.3x7.5mm, Pitch 1.27mm, IPC Medium Density)
footprint 211F_L (SOIC, 16-Leads, Body 10.3x7.5mm, Pitch 1.27mm, IPC High Density)
footprint 211F_M (SOIC, 16-Leads, Body 10.3x7.5mm, Pitch 1.27mm, IPC Low Density)
3D model SOIC16 (16-Pin Small Outline Integrated Circuit 1.27 mm Pitch)
pins: 1 X1 (in), 2 X2 (in), 3 NC, 4 SF, 5 NC, 6 Y1 (in), 7 Y2 (in), 8 NC, 9 NC, 10 V- (power), 11 NC, 12 Z2 (in), 13 Z1 (in), 14 OUT (out), 15 NC, 16 +V (power)

## MPY634SM
designator U?
Wide-Bandwidth Precision Analog Multiplier; Published: 8-Jun-2000; LatestRevisionDate: 17-Jul-2002; LatestRevisionNote: Re-released for DXP Platform.; DatasheetVersion: Dec-1995; PackageVersion: revA; PackageReference: ZZ007; Publisher: Altium Limited; PackageDescription: Can; 10 Leads; Pin Circle Dia. 5.84 mm (TO-100); Lead Dia. 0.53 mm (max); ComponentLink1Description: Manufacturer Link; ComponentLink1URL: http://www.ti.com/; ComponentLink2Description: Datasheet; ComponentLink2URL: http://www-s.ti.com/sc/ds/MPY634.pdf
footprint ZZ007 (Can; 10 Leads; Pin Circle Dia. 5.84 mm (TO-100); Lead Dia. 0.53 mm (max))
pins: 1 X2 (in), 2 SF, 3 Y1 (in), 4 Y2 (in), 5 V- (power), 6 Z2 (in), 7 Z1 (in), 8 OUT (out), 9 +V (power), 10 X1 (in)